# Altium schematic symbol library SiLabs Microcontroller 8-Bit 8051.SchLib: 120 symbols (part 8 of 9)
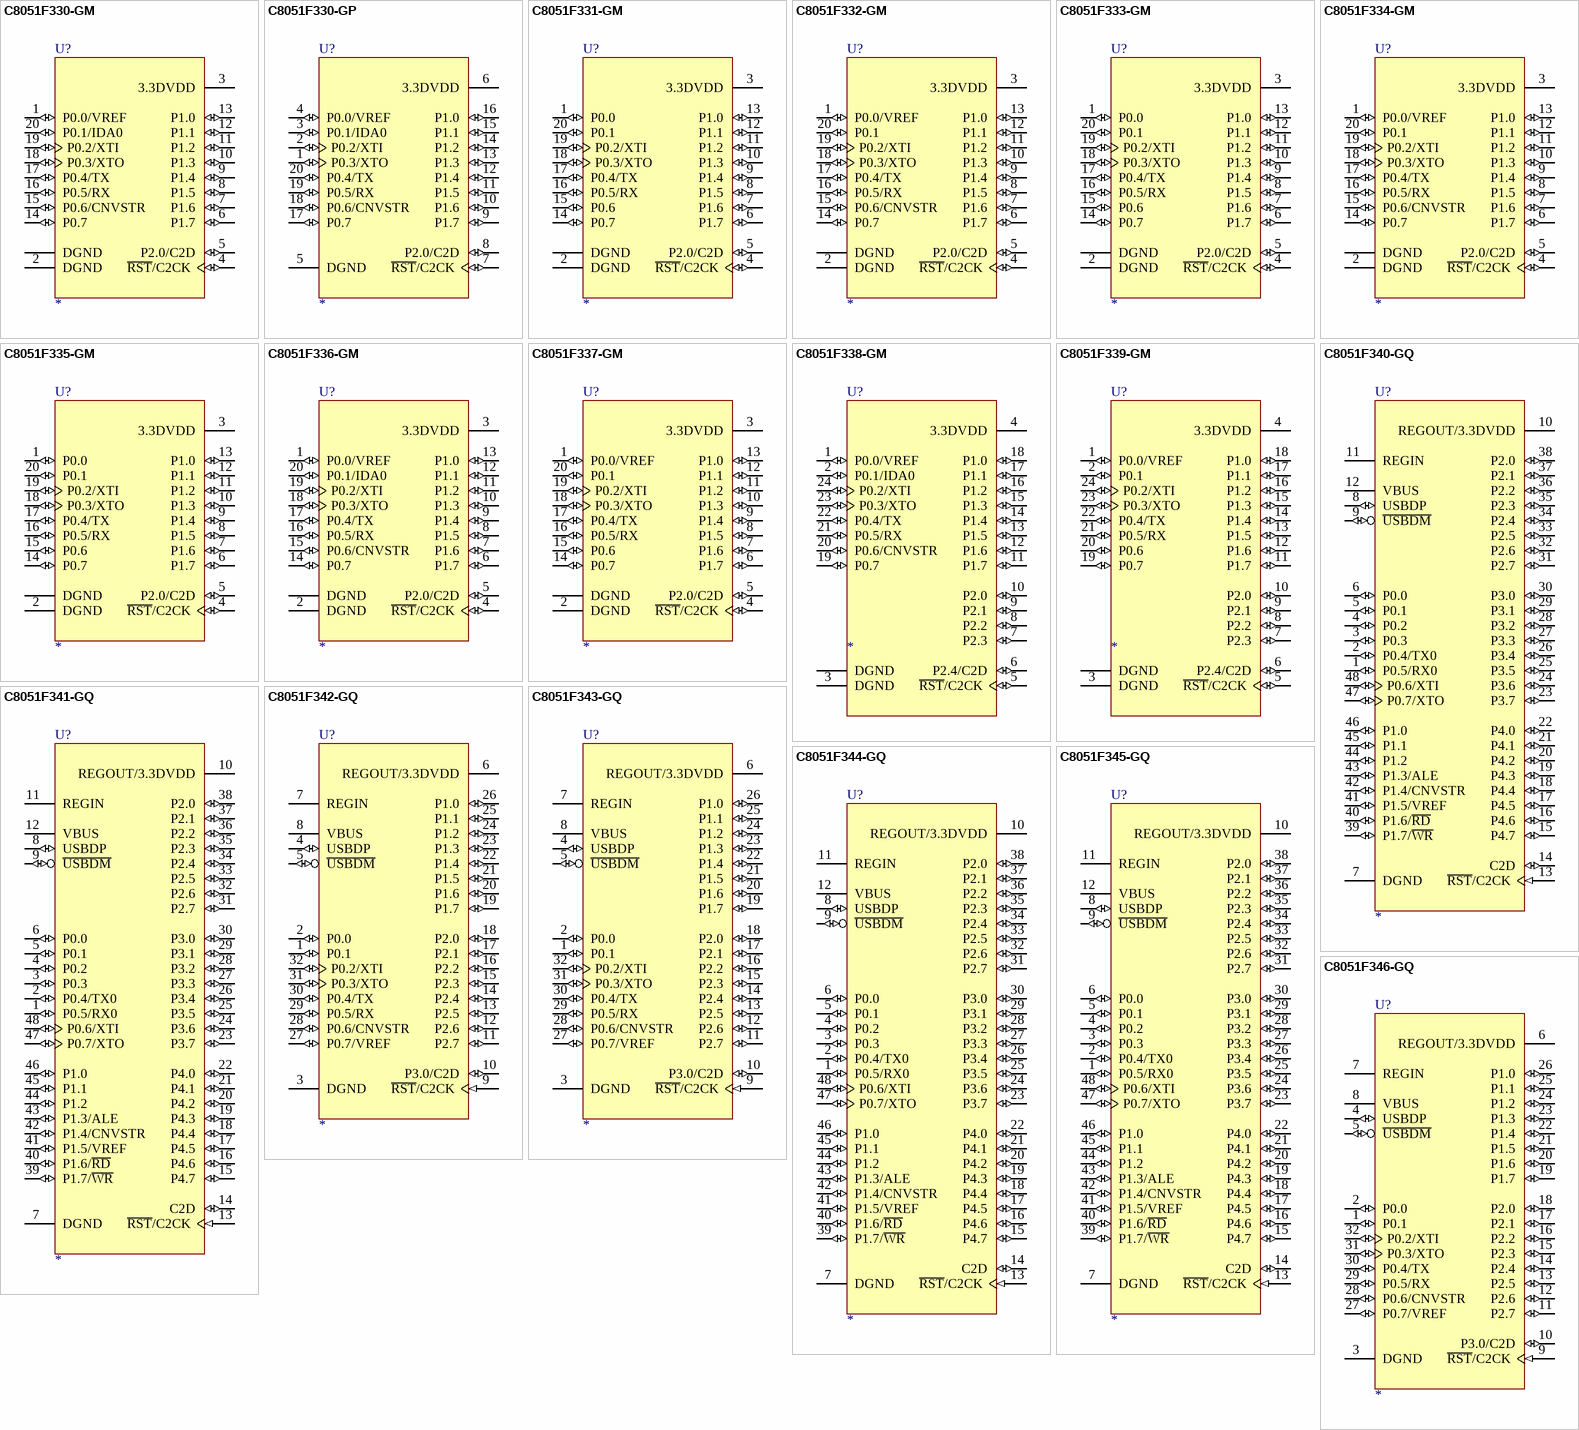
[diagram p21: symbols C8051F330-GM to C8051F346-GQ]

## C8051F346-GQ
designator U?
USB 8051 Microcontroller, 25MIPS, 64KiB Flash, 256Byte RAM + 4KiB XRAM, 1KiB USB FIFO, 12MHz +/-0.25% Internal Oscillator, 4-16bit Timer, 21CH 200ksps 10bit ADC, USB 2.0 FS/LS, UART, I2C, SPI, PCA, 2 Comparator, LDO, 25GPIO.; Manufacture: Silicon Laboratories; Compliant: RoHS; CompliantInformationSource: Silicon Laboratries; PackageDocument: 2008-06; TempertureRange: Industrial (-40 to +85Cel); ComponentLink1Description: Manufacture Link; ComponentLink1URL: http://www.silabs.com/; ComponentLink2Description: Datasheet; ComponentLink2URL: https://www.silabs.com/Support Documents/TechnicalDocs/C8051F34x.pdf; DatasheetDocument: Rev. 1.1, 2008-06; PackageReference: LQFP-32; Published: 2006-02-21; Publisher: A and A System Co., Ltd.; DigiKeyPartNumber: 336-1304-ND
footprint LQFP-32/e0.8 (LQFP-32; Body Width 10mm; Pitch 0.8mm)
pins: 1 P0.1 (io) "Port 0.1.", 2 P0.0 (io) "Port 0.0. See Section 15 for a complete description of Port 0.", 3 DGND (power) "Digital Power Ground", 4 USBDP (io) "USB Data line Positive.", 5 ~{USBDM} (io) "USB Data line Negative", 6 REGOUT/3.3DVDD (power) "2.7-3.6V Power Supply Voltage Input, or 3.3V Voltage Regulator Output. See Section 8.", 7 REGIN (power) "5V Regulator Input. This pin is the input to the on-chip voltage regulator.", 8 VBUS (power) "VBUS Sense Input. This pin should be connected to the VBUS signal of a USB network. A 5?V signal on this pin indicates a USB network connection.", 9 ~{RST}/C2CK (in) "Reset Input, C2 Debug IF Clock Input.", 10 P3.0/C2D (io) "Port 3.0, C2 Debug IF Data IO.", 11 P2.7 (io) "Port 2.7.", 12 P2.6 (io) "Port 2.6.", 13 P2.5 (io) "Port 2.5.", 14 P2.4 (io) "Port 2.4.", 15 P2.3 (io) "Port 2.3.", 16 P2.2 (io) "Port 2.2.", 17 P2.1 (io) "Port 2.1.", 18 P2.0 (io) "Port 2.0.", 19 P1.7 (io) "Port 1.7.", 20 P1.6 (io) "Port 1.6.", 21 P1.5 (io) "Port 1.5.", 22 P1.4 (io) "Port 1.4.", 23 P1.3 (io) "Port 1.3.", 24 P1.2 (io) "Port 1.2.", 25 P1.1 (io) "Port 1.1", 26 P1.0 (io) "Port 1.0", 27 P0.7/VREF (io) "Port 0.7, ADC Voltage Reference.", 28 P0.6/CNVSTR (io) "Port 0.6, ADC0 External Converter Start Input.", 29 P0.5/RX (io) "Port 0.5.", 30 P0.4/TX (io) "Port 0.4.", 31 P0.3/XTO (io) "Port 0.3, External Clock Input.", 32 P0.2/XTI (io) "Port 0.2, External Clock Output."

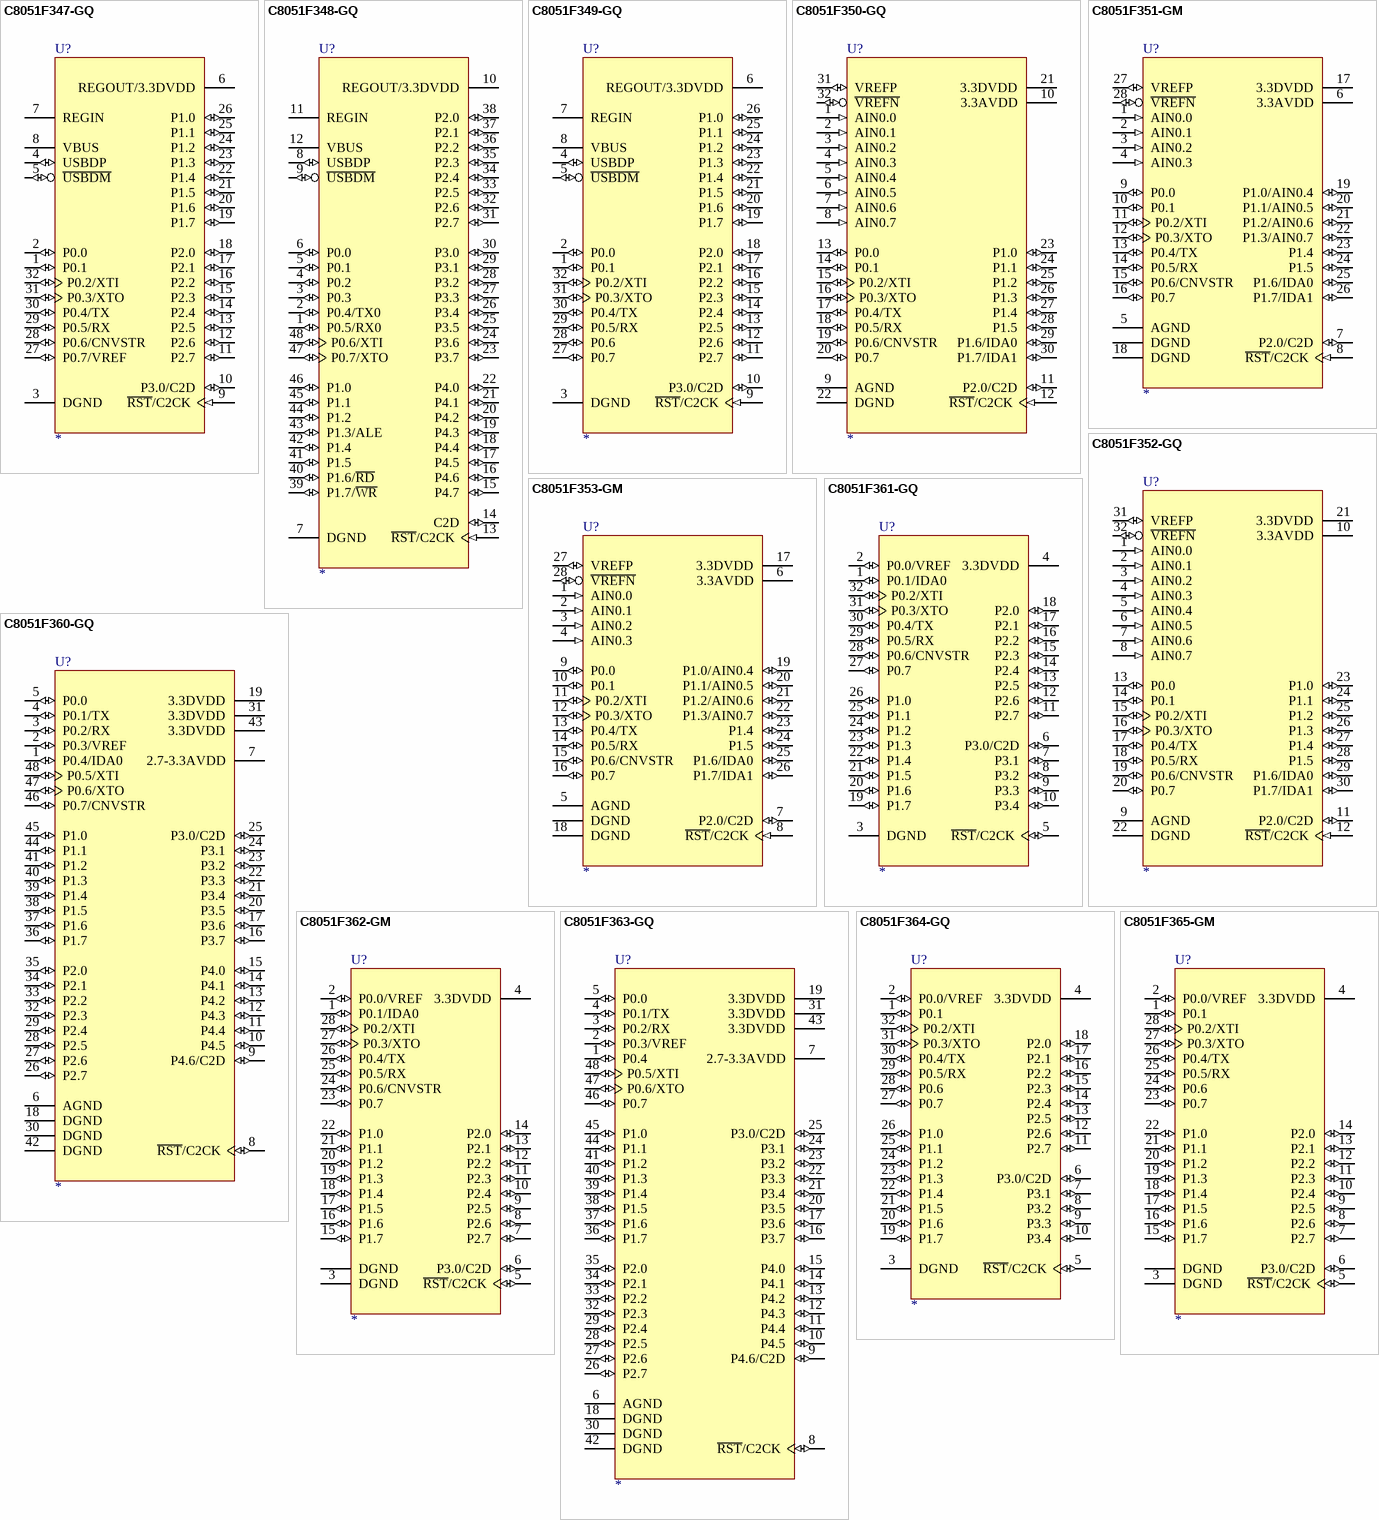
[diagram p13: symbols C8051F347-GQ to C8051F365-GM]

## C8051F347-GQ
designator U?
USB 8051 Microcontroller, 25MIPS, 32KiB Flash, 256Byte RAM + 2KiB XRAM, 1KiB USB FIFO, 12MHz +/-0.25% Internal Oscillator, 4-16bit Timer, 21CH 200ksps 10bit ADC, USB 2.0 FS/LS, UART, I2C, SPI, PCA, 2 Comparator, LDO, 25GPIO.; Manufacture: Silicon Laboratories; Compliant: RoHS; CompliantInformationSource: Silicon Laboratries; PackageDocument: 2008-06; TempertureRange: Industrial (-40 to +85Cel); ComponentLink1Description: Manufacture Link; ComponentLink1URL: http://www.silabs.com/; ComponentLink2Description: Datasheet; ComponentLink2URL: https://www.silabs.com/Support Documents/TechnicalDocs/C8051F34x.pdf; DatasheetDocument: Rev. 1.1, 2008-06; PackageReference: LQFP-32; Published: 2006-02-21; Publisher: A and A System Co., Ltd.; DigiKeyPartNumber: 336-1305-ND
footprint LQFP-32/e0.8 (LQFP-32; Body Width 10mm; Pitch 0.8mm)
pins: 1 P0.1 (io) "Port 0.1.", 2 P0.0 (io) "Port 0.0. See Section 15 for a complete description of Port 0.", 3 DGND (power) "Digital Power Ground", 4 USBDP (io) "USB Data line Positive.", 5 ~{USBDM} (io) "USB Data line Negative", 6 REGOUT/3.3DVDD (power) "2.7-3.6V Power Supply Voltage Input, or 3.3V Voltage Regulator Output. See Section 8.", 7 REGIN (power) "5V Regulator Input. This pin is the input to the on-chip voltage regulator.", 8 VBUS (power) "VBUS Sense Input. This pin should be connected to the VBUS signal of a USB network. A 5?V signal on this pin indicates a USB network connection.", 9 ~{RST}/C2CK (in) "Reset Input, C2 Debug IF Clock Input.", 10 P3.0/C2D (io) "Port 3.0, C2 Debug IF Data IO.", 11 P2.7 (io) "Port 2.7.", 12 P2.6 (io) "Port 2.6.", 13 P2.5 (io) "Port 2.5.", 14 P2.4 (io) "Port 2.4.", 15 P2.3 (io) "Port 2.3.", 16 P2.2 (io) "Port 2.2.", 17 P2.1 (io) "Port 2.1.", 18 P2.0 (io) "Port 2.0.", 19 P1.7 (io) "Port 1.7.", 20 P1.6 (io) "Port 1.6.", 21 P1.5 (io) "Port 1.5.", 22 P1.4 (io) "Port 1.4.", 23 P1.3 (io) "Port 1.3.", 24 P1.2 (io) "Port 1.2.", 25 P1.1 (io) "Port 1.1", 26 P1.0 (io) "Port 1.0", 27 P0.7/VREF (io) "Port 0.7, ADC Voltage Reference.", 28 P0.6/CNVSTR (io) "Port 0.6, ADC0 External Converter Start Input.", 29 P0.5/RX (io) "Port 0.5.", 30 P0.4/TX (io) "Port 0.4.", 31 P0.3/XTO (io) "Port 0.3, External Clock Input.", 32 P0.2/XTI (io) "Port 0.2, External Clock Output."

## C8051F348-GQ
designator U?
USB 8051 Microcontroller, 25MIPS, 32KiB Flash, 256Byte RAM + 2KiB XRAM, 1KiB USB FIFO, 64KiB EMIF, 12MHz +/-0.25% and 80kHz Internal Oscillator, 4-16bit Timer, USB 2.0 FS/LS, 2 UART, I2C, SPI, PCA, 2 Comparator, LDO, 40GPIO.; Manufacture: Silicon Laboratories; Compliant: RoHS; CompliantInformationSource: Silicon Laboratries; PackageDocument: 2008-06; TempertureRange: Industrial (-40 to +85Cel); ComponentLink1Description: Manufacture Link; ComponentLink1URL: http://www.silabs.com/; ComponentLink2Description: Datasheet; ComponentLink2URL: https://www.silabs.com/Support Documents/TechnicalDocs/C8051F34x.pdf; DatasheetDocument: Rev. 1.1, 2008-06; PackageReference: TQFP-48; Published: 2006-02-21; Publisher: A and A System Co., Ltd.; DigiKeyPartNumber: 336-1508-ND
footprint TQFP-48/e0.5 (TQFP-48; Body Width 9mm; Pitch 0.5mm)
pins: 1 P0.5/RX0 (io) "Port 0.5.", 2 P0.4/TX0 (io) "Port 0.4.", 3 P0.3 (io) "Port 0.3.", 4 P0.2 (io) "Port 0.2.", 5 P0.1 (io) "Port 0.1.", 6 P0.0 (io) "Port 0.0. See Section 15 for a complete description of Port 0.", 7 DGND (power) "Digital Power Ground", 8 USBDP (io) "USB Data line Positive.", 9 ~{USBDM} (io) "USB Data line Negative", 10 REGOUT/3.3DVDD (power) "2.7-3.6V Power Supply Voltage Input, or 3.3V Voltage Regulator Output. See Section 8.", 11 REGIN (power) "5V Regulator Input. This pin is the input to the on-chip voltage regulator.", 12 VBUS (power) "VBUS Sense Input. This pin should be connected to the VBUS signal of a USB network. A 5?V signal on this pin indicates a USB network connection.", 13 ~{RST}/C2CK (in) "Reset Input, C2 Debug IF Clock Input.", 14 C2D (io) "Port 0.3, C2 Debug IF Data IO.", 15 P4.7 (io) "Port 4.7.", 16 P4.6 (io) "Port 4.6.", 17 P4.5 (io) "Port 4.5.", 18 P4.4 (io) "Port 4.4.", 19 P4.3 (io) "Port 4.3.", 20 P4.2 (io) "Port 4.2.", 21 P4.1 (io) "Port 4.1.", 22 P4.0 (io) "Port 4.0.", 23 P3.7 (io) "Port 3.7.", 24 P3.6 (io) "Port 3.6.", 25 P3.5 (io) "Port 3.5.", 26 P3.4 (io) "Port 3.4.", 27 P3.3 (io) "Port 3.3.", 28 P3.2 (io) "Port 3.2.", 29 P3.1 (io) "Port 3.1.", 30 P3.0 (io) "Port 3.0.", 31 P2.7 (io) "Port 2.7.", 32 P2.6 (io) "Port 2.6.", 33 P2.5 (io) "Port 2.5.", 34 P2.4 (io) "Port 2.4.", 35 P2.3 (io) "Port 2.3.", 36 P2.2 (io) "Port 2.2.", 37 P2.1 (io) "Port 2.1.", 38 P2.0 (io) "Port 2.0.", 39 P1.7/~{WR} (io) "Port 1.7, WR Strobe for External Memory Address bus. See Port Input/Output section for complete description.", 40 P1.6/~{RD} (io) "Port 1.6, RD Strobe for External Memory Address bus. See Port Input/Output section for complete description.", 41 P1.5 (io) "Port 1.5, External Voltage Reference", 42 P1.4 (io) "Port 1.4, ADC0 External Converter Start Input.", 43 P1.3/ALE (io) "Port 1.3, ALE Strobe for External Memory Address bus (multiplexed mode) See Port Input/Output section for complete description.", 44 P1.2 (io) "Port 1.2.", 45 P1.1 (io) "Port 1.1", 46 P1.0 (io) "Port 1.0", 47 P0.7/XTO (io) "Port 0.7, External Clock Output.", 48 P0.6/XTI (io) "Port 0.2, External Clock Input."

## C8051F349-GQ
designator U?
USB 8051 Microcontroller, 25MIPS, 32KiB Flash, 256Byte RAM + 2KiB XRAM, 1KiB USB FIFO, 12MHz +/-0.25% and 80kHz Internal Oscillator, 4-16bit Timer, USB 2.0 FS/LS, UART, I2C, SPI, PCA, 2 Comparator, LDO, 25GPIO.; Manufacture: Silicon Laboratories; Compliant: RoHS; CompliantInformationSource: Silicon Laboratries; PackageDocument: 2008-06; TempertureRange: Industrial (-40 to +85Cel); ComponentLink1Description: Manufacture Link; ComponentLink1URL: http://www.silabs.com/; ComponentLink2Description: Datasheet; ComponentLink2URL: https://www.silabs.com/Support Documents/TechnicalDocs/C8051F34x.pdf; DatasheetDocument: Rev. 1.1, 2008-06; PackageReference: LQFP-32; Published: 2006-02-21; Publisher: A and A System Co., Ltd.; DigiKeyPartNumber: 336-1509-ND
footprint LQFP-32/e0.8 (LQFP-32; Body Width 10mm; Pitch 0.8mm)
pins: 1 P0.1 (io) "Port 0.1.", 2 P0.0 (io) "Port 0.0. See Section 15 for a complete description of Port 0.", 3 DGND (power) "Digital Power Ground", 4 USBDP (io) "USB Data line Positive.", 5 ~{USBDM} (io) "USB Data line Negative", 6 REGOUT/3.3DVDD (power) "2.7-3.6V Power Supply Voltage Input, or 3.3V Voltage Regulator Output. See Section 8.", 7 REGIN (power) "5V Regulator Input. This pin is the input to the on-chip voltage regulator.", 8 VBUS (power) "VBUS Sense Input. This pin should be connected to the VBUS signal of a USB network. A 5?V signal on this pin indicates a USB network connection.", 9 ~{RST}/C2CK (in) "Reset Input, C2 Debug IF Clock Input.", 10 P3.0/C2D (io) "Port 3.0, C2 Debug IF Data IO.", 11 P2.7 (io) "Port 2.7.", 12 P2.6 (io) "Port 2.6.", 13 P2.5 (io) "Port 2.5.", 14 P2.4 (io) "Port 2.4.", 15 P2.3 (io) "Port 2.3.", 16 P2.2 (io) "Port 2.2.", 17 P2.1 (io) "Port 2.1.", 18 P2.0 (io) "Port 2.0.", 19 P1.7 (io) "Port 1.7.", 20 P1.6 (io) "Port 1.6.", 21 P1.5 (io) "Port 1.5.", 22 P1.4 (io) "Port 1.4.", 23 P1.3 (io) "Port 1.3.", 24 P1.2 (io) "Port 1.2.", 25 P1.1 (io) "Port 1.1", 26 P1.0 (io) "Port 1.0", 27 P0.7 (io) "Port 0.7, ADC Voltage Reference.", 28 P0.6 (io) "Port 0.6, ADC0 External Converter Start Input.", 29 P0.5/RX (io) "Port 0.5.", 30 P0.4/TX (io) "Port 0.4.", 31 P0.3/XTO (io) "Port 0.3, External Clock Input.", 32 P0.2/XTI (io) "Port 0.2, External Clock Output."

## C8051F350-GQ
designator U?
8051 Microcontroller, 50MIPS, 8KiB Flash, 256Byte RAM + 512Byte XRAM, 24.5MHz +/-2% Internal Oscillator, 4-16bit Timer, 8CH 1ksps 24bit ADC, 2CH 8bit IDAC, UART, I2C, SPI, PCA, Comparator, 17GPIO.; Manufacture: Silicon Laboratories; Compliant: RoHS; CompliantInformationSource: Silicon Laboratries; PackageDocument: 2005-04; TempertureRange: Industrial (-40 to +85Cel); ComponentLink1Description: Manufacture Link; ComponentLink1URL: http://www.silabs.com/; ComponentLink2Description: Datasheet; ComponentLink2URL: https://www.silabs.com/Support Documents/TechnicalDocs/C8051F35x.pdf; DatasheetDocument: Rev. 1.0, 2005-04; PackageReference: LQFP-32; Published: 2006-02-25; Publisher: A and A System Co., Ltd.; DigiKeyPartNumber: 336-1270-ND
footprint LQFP-32/e0.8 (LQFP-32; Body Width 10mm; Pitch 0.8mm)
pins: 1 AIN0.0 (in) "ADC0 Input Channel 0.", 2 AIN0.1 (in) "ADC0 Input Channel 1.", 3 AIN0.2 (in) "ADC0 Input Channel 2.", 4 AIN0.3 (in) "ADC0 Input Channel 3.", 5 AIN0.4 (in) "ADC0 Input Channel 4.", 6 AIN0.5 (in) "ADC0 Input Channel 5.", 7 AIN0.6 (in) "ADC0 Input Channel 06.", 8 AIN0.7 (in) "ADC0 Input Channel 7.", 9 AGND (power) "Analog Ground. Must be tied to Ground.", 10 3.3AVDD (power) "Analog Supply Voltage. Must be tied to +2.7?V to +3.6?V power.", 11 P2.0/C2D (io) "Port 2.0/C2 Debug IF Data IO.", 12 ~{RST}/C2CK (in) "Reset Input/C2 Debug IF Clock Input.", 13 P0.0 (io) "Port 0.0.", 14 P0.1 (io) "Port 0.1.", 15 P0.2/XTI (io) "Port 0.2, This pin is the external oscillator return for a crystal or resonator.", 16 P0.3/XTO (io) "Port 0.3, This pin is the excitation driver for an external crystal or resonator, or an external clock input for CMOS, capacitor, or RC oscillator configurations.", 17 P0.4/TX (io) "Port 0.4.", 18 P0.5/RX (io) "Port 0.5.", 19 P0.6/CNVSTR (io) "Port 0.6, External Convert Start Input for IDACs.", 20 P0.7 (io) "Port 0.7.", 21 3.3DVDD (power) "Digital Supply Voltage. Must be tied to +2.7?V to +3.6?V power.", 22 DGND (power) "Digital Ground. Must be tied to Ground.", 23 P1.0 (io) "Port 1.0.", 24 P1.1 (io) "Port 1.1.", 25 P1.2 (io) "Port 1.2.", 26 P1.3 (io) "Port 1.3.", 27 P1.4 (io) "Port 1.4.", 28 P1.5 (io) "Port 1.5.", 29 P1.6/IDA0 (io) "Port 1.6, IDAC0 Output.", 30 P1.7/IDA1 (io) "Port 1.7, IDAC1 Output.", 31 VREFP (io) "VREF Positive Voltage Pin.", 32 ~{VREFN} (io) "VREF Negative Voltage Pin."

## C8051F351-GM
designator U?
8051 Microcontroller, 50MIPS, 8KiB Flash, 256Byte RAM + 512Byte XRAM, 24.5MHz +/-2% Internal Oscillator, 4-16bit Timer, 8CH 1ksps 24bit ADC, 2CH 8bit IDAC, UART, I2C, SPI, PCA, Comparator, 17GPIO.; Manufacture: Silicon Laboratories; Compliant: RoHS; CompliantInformationSource: Silicon Laboratries; PackageDocument: 2005-04; TempertureRange: Industrial (-40 to +85Cel); ComponentLink1Description: Manufacture Link; ComponentLink1URL: http://www.silabs.com/; ComponentLink2Description: Datasheet; ComponentLink2URL: https://www.silabs.com/Support Documents/TechnicalDocs/C8051F35x.pdf; DatasheetDocument: Rev. 1.0, 2005-04; PackageReference: QFN-28; Published: 2006-03-02; Publisher: A and A System Co., Ltd.; DigiKeyPartNumber: 336-1271-ND
footprint SILABS/QFN-28/W5/E0.5 (SiLabs Specific; QFN-28; Body 5.00x5.00x0.90mm; Pitch 0.5mm)
pins: 1 AIN0.0 (in) "ADC0 Input Channel 0.", 2 AIN0.1 (in) "ADC0 Input Channel 1.", 3 AIN0.2 (in) "ADC0 Input Channel 2.", 4 AIN0.3 (in) "ADC0 Input Channel 3.", 5 AGND (power) "Analog Ground. Must be tied to Ground.", 6 3.3AVDD (power) "Analog Supply Voltage. Must be tied to +2.7?V to +3.6?V power.", 7 P2.0/C2D (io) "Port 2.0/C2 Debug IF Data IO.", 8 ~{RST}/C2CK (in) "Reset Input/C2 Debug IF Clock Input.", 9 P0.0 (io) "Port 0.0.", 10 P0.1 (io) "Port 0.1.", 11 P0.2/XTI (io) "Port 0.2, This pin is the external oscillator return for a crystal or resonator.", 12 P0.3/XTO (io) "Port 0.3, This pin is the excitation driver for an external crystal or resonator, or an external clock input for CMOS, capacitor, or RC oscillator configurations.", 13 P0.4/TX (io) "Port 0.4.", 14 P0.5/RX (io) "Port 0.5.", 15 P0.6/CNVSTR (io) "Port 0.6, External Convert Start Input for IDACs.", 16 P0.7 (io) "Port 0.7.", 17 3.3DVDD (power) "Digital Supply Voltage. Must be tied to +2.7?V to +3.6?V power.", 18 DGND (power) "Digital Ground. Must be tied to Ground.", 19 P1.0/AIN0.4 (io) "Port 1.0, ADC0 Input Channel 4.", 20 P1.1/AIN0.5 (io) "Port 1.1, ADC0 Input Channel 5.", 21 P1.2/AIN0.6 (io) "Port 1.2, ADC0 Input Channel 6.", 22 P1.3/AIN0.7 (io) "Port 1.3, ADC0 Input Channel 7.", 23 P1.4 (io) "Port 1.4.", 24 P1.5 (io) "Port 1.5.", 25 P1.6/IDA0 (io) "Port 1.6, IDAC0 Output.", 26 P1.7/IDA1 (io) "Port 1.7, IDAC1 Output.", 27 VREFP (io) "VREF Positive Voltage Pin.", 28 ~{VREFN} (io) "VREF Negative Voltage Pin.", TPAD DGND (power)

## C8051F352-GQ
designator U?
8051 Microcontroller, 50MIPS, 8KiB Flash, 256Byte RAM + 512Byte XRAM, 24.5MHz +/-2% Internal Oscillator, 4-16bit Timer, 8CH 1ksps 16bit ADC, 2CH 8bit IDAC, UART, I2C, SPI, PCA, Comparator, 17GPIO.; Manufacture: Silicon Laboratories; Compliant: RoHS; CompliantInformationSource: Silicon Laboratries; PackageDocument: 2005-04; TempertureRange: Industrial (-40 to +85Cel); ComponentLink1Description: Manufacture Link; ComponentLink1URL: http://www.silabs.com/; ComponentLink2Description: Datasheet; ComponentLink2URL: https://www.silabs.com/Support Documents/TechnicalDocs/C8051F35x.pdf; DatasheetDocument: Rev. 1.0, 2005-04; PackageReference: LQFP-32; Published: 2006-02-25; Publisher: A and A System Co., Ltd.; DigiKeyPartNumber: 336-1272-ND
footprint LQFP-32/e0.8 (LQFP-32; Body Width 10mm; Pitch 0.8mm)
pins: 1 AIN0.0 (in) "ADC0 Input Channel 0.", 2 AIN0.1 (in) "ADC0 Input Channel 1.", 3 AIN0.2 (in) "ADC0 Input Channel 2.", 4 AIN0.3 (in) "ADC0 Input Channel 3.", 5 AIN0.4 (in) "ADC0 Input Channel 4.", 6 AIN0.5 (in) "ADC0 Input Channel 5.", 7 AIN0.6 (in) "ADC0 Input Channel 06.", 8 AIN0.7 (in) "ADC0 Input Channel 7.", 9 AGND (power) "Analog Ground. Must be tied to Ground.", 10 3.3AVDD (power) "Analog Supply Voltage. Must be tied to +2.7?V to +3.6?V power.", 11 P2.0/C2D (io) "Port 2.0/C2 Debug IF Data IO.", 12 ~{RST}/C2CK (in) "Reset Input/C2 Debug IF Clock Input.", 13 P0.0 (io) "Port 0.0.", 14 P0.1 (io) "Port 0.1.", 15 P0.2/XTI (io) "Port 0.2, This pin is the external oscillator return for a crystal or resonator.", 16 P0.3/XTO (io) "Port 0.3, This pin is the excitation driver for an external crystal or resonator, or an external clock input for CMOS, capacitor, or RC oscillator configurations.", 17 P0.4/TX (io) "Port 0.4.", 18 P0.5/RX (io) "Port 0.5.", 19 P0.6/CNVSTR (io) "Port 0.6, External Convert Start Input for IDACs.", 20 P0.7 (io) "Port 0.7.", 21 3.3DVDD (power) "Digital Supply Voltage. Must be tied to +2.7?V to +3.6?V power.", 22 DGND (power) "Digital Ground. Must be tied to Ground.", 23 P1.0 (io) "Port 1.0.", 24 P1.1 (io) "Port 1.1.", 25 P1.2 (io) "Port 1.2.", 26 P1.3 (io) "Port 1.3.", 27 P1.4 (io) "Port 1.4.", 28 P1.5 (io) "Port 1.5.", 29 P1.6/IDA0 (io) "Port 1.6, IDAC0 Output.", 30 P1.7/IDA1 (io) "Port 1.7, IDAC1 Output.", 31 VREFP (io) "VREF Positive Voltage Pin.", 32 ~{VREFN} (io) "VREF Negative Voltage Pin."

## C8051F353-GM
designator U?
8051 Microcontroller, 50MIPS, 8KiB Flash, 256Byte RAM + 512Byte XRAM, 24.5MHz +/-2% Internal Oscillator, 4-16bit Timer, 8CH 1ksps 16bit ADC, 2CH 8bit IDAC, UART, I2C, SPI, PCA, Comparator, 17GPIO.; Manufacture: Silicon Laboratories; Compliant: RoHS; CompliantInformationSource: Silicon Laboratries; PackageDocument: 2005-04; TempertureRange: Industrial (-40 to +85Cel); ComponentLink1Description: Manufacture Link; ComponentLink1URL: http://www.silabs.com/; ComponentLink2Description: Datasheet; ComponentLink2URL: https://www.silabs.com/Support Documents/TechnicalDocs/C8051F35x.pdf; DatasheetDocument: Rev. 1.0, 2005-04; PackageReference: QFN-28; Published: 2006-03-02; Publisher: A and A System Co., Ltd.; DigiKeyPartNumber: 336-1273-ND
footprint SILABS/QFN-28/W5/E0.5 (SiLabs Specific; QFN-28; Body 5.00x5.00x0.90mm; Pitch 0.5mm)
pins: 1 AIN0.0 (in) "ADC0 Input Channel 0.", 2 AIN0.1 (in) "ADC0 Input Channel 1.", 3 AIN0.2 (in) "ADC0 Input Channel 2.", 4 AIN0.3 (in) "ADC0 Input Channel 3.", 5 AGND (power) "Analog Ground. Must be tied to Ground.", 6 3.3AVDD (power) "Analog Supply Voltage. Must be tied to +2.7?V to +3.6?V power.", 7 P2.0/C2D (io) "Port 2.0/C2 Debug IF Data IO.", 8 ~{RST}/C2CK (in) "Reset Input/C2 Debug IF Clock Input.", 9 P0.0 (io) "Port 0.0.", 10 P0.1 (io) "Port 0.1.", 11 P0.2/XTI (io) "Port 0.2, This pin is the external oscillator return for a crystal or resonator.", 12 P0.3/XTO (io) "Port 0.3, This pin is the excitation driver for an external crystal or resonator, or an external clock input for CMOS, capacitor, or RC oscillator configurations.", 13 P0.4/TX (io) "Port 0.4.", 14 P0.5/RX (io) "Port 0.5.", 15 P0.6/CNVSTR (io) "Port 0.6, External Convert Start Input for IDACs.", 16 P0.7 (io) "Port 0.7.", 17 3.3DVDD (power) "Digital Supply Voltage. Must be tied to +2.7?V to +3.6?V power.", 18 DGND (power) "Digital Ground. Must be tied to Ground.", 19 P1.0/AIN0.4 (io) "Port 1.0, ADC0 Input Channel 4.", 20 P1.1/AIN0.5 (io) "Port 1.1, ADC0 Input Channel 5.", 21 P1.2/AIN0.6 (io) "Port 1.2, ADC0 Input Channel 6.", 22 P1.3/AIN0.7 (io) "Port 1.3, ADC0 Input Channel 7.", 23 P1.4 (io) "Port 1.4.", 24 P1.5 (io) "Port 1.5.", 25 P1.6/IDA0 (io) "Port 1.6, IDAC0 Output.", 26 P1.7/IDA1 (io) "Port 1.7, IDAC1 Output.", 27 VREFP (io) "VREF Positive Voltage Pin.", 28 ~{VREFN} (io) "VREF Negative Voltage Pin.", TPAD DGND (power)

## C8051F360-GQ
designator U?
8051 Microcontroller, 100MIPS, 16x16MAC, 32KiB Flash, 256Byte RAM + 1KiB XRAM, 64KiB EMIF, 24.5MHz +/-2% and 80-10kHz Internal Oscillator, 4-16bit Timer, 17CH 200ksps 10bit ADC, 1CH 10bit IDAC, UART, I2C, SPI, PCA, 2 Comparator, 39GPIO.; Manufacture: Silicon Laboratories; Compliant: RoHS; CompliantInformationSource: Silicon Laboratries; PackageDocument: 2007-07; TempertureRange: Industrial (-40 to +85Cel); ComponentLink1Description: Manufacture Link; ComponentLink1URL: http://www.silabs.com/; ComponentLink2Description: Datasheet; ComponentLink2URL: https://www.silabs.com/Support Documents/TechnicalDocs/C8051F36x.pdf; DatasheetDocument: Rev. 1.0, 2007-07; PackageReference: TQFP-48; Published: 2007-02-15; Publisher: A and A System Co., Ltd.; DigiKeyPartNumber: 336-1407-ND
footprint TQFP-48/e0.5 (TQFP-48; JEDEC MS-026ABC; Body 7.00x7.00x1.20mm; Pitch 0.5mm;)
pins: 1 P0.4/IDA0 (io), 2 P0.3/VREF (io), 3 P0.2/RX (io), 4 P0.1/TX (io), 5 P0.0 (io), 6 AGND (power), 7 2.7-3.3AVDD (power), 8 ~{RST}/C2CK (io), 9 P4.6/C2D (io), 10 P4.5 (io), 11 P4.4 (io), 12 P4.3 (io), 13 P4.2 (io), 14 P4.1 (io), 15 P4.0 (io), 16 P3.7 (io), 17 P3.6 (io), 18 DGND (power), 19 3.3DVDD (power), 20 P3.5 (io), 21 P3.4 (io), 22 P3.3 (io), 23 P3.2 (io), 24 P3.1 (io), 25 P3.0/C2D (io), 26 P2.7 (io), 27 P2.6 (io), 28 P2.5 (io), 29 P2.4 (io), 30 DGND (power), 31 3.3DVDD (power), 32 P2.3 (io), 33 P2.2 (io), 34 P2.1 (io), 35 P2.0 (io), 36 P1.7 (io), 37 P1.6 (io), 38 P1.5 (io), 39 P1.4 (io), 40 P1.3 (io), 41 P1.2 (io), 42 DGND (power), 43 3.3DVDD (power), 44 P1.1 (io), 45 P1.0 (io), 46 P0.7/CNVSTR (io), 47 P0.6/XTO (io), 48 P0.5/XTI (io)

## C8051F361-GQ
designator U?
8051 Microcontroller, 100MIPS, 16x16MAC, 32KiB Flash, 256Byte RAM + 1KiB XRAM, 24.5MHz +/-2% and 80-10kHz Internal Oscillator, 4-16bit Timer, 21CH 200ksps 10bit ADC, 1CH 10bit IDAC, UART, I2C, SPI, PCA, 2 Comparator, 29GPIO.; Manufacture: Silicon Laboratories; Compliant: RoHS; CompliantInformationSource: Silicon Laboratries; PackageDocument: 2007-07; TempertureRange: Industrial (-40 to +85Cel); ComponentLink1Description: Manufacture Link; ComponentLink1URL: http://www.silabs.com/; ComponentLink2Description: Datasheet; ComponentLink2URL: https://www.silabs.com/Support Documents/TechnicalDocs/C8051F36x.pdf; DatasheetDocument: Rev. 1.0, 2007-07; PackageReference: LQFP-32; Published: 2007-02-15; Publisher: A and A System Co., Ltd.; DigiKeyPartNumber: 336-1408-ND
footprint LQFP-32/e0.8 (LQFP-32; JEDEC MS-026BBA; Body 7.00x7.00x1.60mm; Pitch 0.8mm;)
pins: 1 P0.1/IDA0 (io), 2 P0.0/VREF (io), 3 DGND (power), 4 3.3DVDD (power), 5 ~{RST}/C2CK (io), 6 P3.0/C2D (io), 7 P3.1 (io), 8 P3.2 (io), 9 P3.3 (io), 10 P3.4 (io), 11 P2.7 (io), 12 P2.6 (io), 13 P2.5 (io), 14 P2.4 (io), 15 P2.3 (io), 16 P2.2 (io), 17 P2.1 (io), 18 P2.0 (io), 19 P1.7 (io), 20 P1.6 (io), 21 P1.5 (io), 22 P1.4 (io), 23 P1.3 (io), 24 P1.2 (io), 25 P1.1 (io), 26 P1.0 (io), 27 P0.7 (io), 28 P0.6/CNVSTR (io), 29 P0.5/RX (io), 30 P0.4/TX (io), 31 P0.3/XTO (io), 32 P0.2/XTI (io)

## C8051F362-GM
designator U?
8051 Microcontroller, 100MIPS, 16x16MAC, 32KiB Flash, 256Byte RAM + 1KiB XRAM, 24.5MHz +/-2% and 80-10kHz Internal Oscillator, 4-16bit Timer, 21CH 200ksps 10bit ADC, 1CH 10bit IDAC, UART, I2C, SPI, PCA, 2 Comparator, 25GPIO.; Manufacture: Silicon Laboratories; Compliant: RoHS; CompliantInformationSource: Silicon Laboratries; PackageDocument: 2007-07; TempertureRange: Industrial (-40 to +85Cel); ComponentLink1Description: Manufacture Link; ComponentLink1URL: http://www.silabs.com/; ComponentLink2Description: Datasheet; ComponentLink2URL: https://www.silabs.com/Support Documents/TechnicalDocs/C8051F36x.pdf; DatasheetDocument: Rev. 1.0, 2007-07; PackageReference: QFN-28; Published: 2007-02-15; Publisher: A and A System Co., Ltd.; DigiKeyPartNumber: 336-1409-5-ND
footprint HV-PQFN-28/W5/e0.5 (QFN-28; JEDEC MO-220-VHHD-1; Body 5.00x5.00x1.00mm; Pitch 0.5mm;)
pins: 1 P0.1/IDA0 (io), 2 P0.0/VREF (io), 3 DGND (power), 4 3.3DVDD (power), 5 ~{RST}/C2CK (io), 6 P3.0/C2D (io), 7 P2.7 (io), 8 P2.6 (io), 9 P2.5 (io), 10 P2.4 (io), 11 P2.3 (io), 12 P2.2 (io), 13 P2.1 (io), 14 P2.0 (io), 15 P1.7 (io), 16 P1.6 (io), 17 P1.5 (io), 18 P1.4 (io), 19 P1.3 (io), 20 P1.2 (io), 21 P1.1 (io), 22 P1.0 (io), 23 P0.7 (io), 24 P0.6/CNVSTR (io), 25 P0.5/RX (io), 26 P0.4/TX (io), 27 P0.3/XTO (io), 28 P0.2/XTI (io), TPAD DGND (power)

## C8051F363-GQ
designator U?
8051 Microcontroller, 100MIPS, 16x16MAC, 32KiB Flash, 256Byte RAM + 1KiB XRAM, 64KiB EMIF, 24.5MHz +/-2% and 80-10kHz Internal Oscillator, 4-16bit Timer, UART, I2C, SPI, PCA, 2 Comparator, 39GPIO.; Manufacture: Silicon Laboratories; Compliant: RoHS; CompliantInformationSource: Silicon Laboratries; PackageDocument: 2007-07; TempertureRange: Industrial (-40 to +85Cel); ComponentLink1Description: Manufacture Link; ComponentLink1URL: http://www.silabs.com/; ComponentLink2Description: Datasheet; ComponentLink2URL: https://www.silabs.com/Support Documents/TechnicalDocs/C8051F36x.pdf; DatasheetDocument: Rev. 1.0, 2007-07; PackageReference: TQFP-48; Published: 2007-02-15; Publisher: A and A System Co., Ltd.; DigiKeyPartNumber: *
footprint TQFP-48/e0.5 (TQFP-48; JEDEC MS-026ABC; Body 7.00x7.00x1.20mm; Pitch 0.5mm;)
pins: 1 P0.4 (io), 2 P0.3/VREF (io), 3 P0.2/RX (io), 4 P0.1/TX (io), 5 P0.0 (io), 6 AGND (power), 7 2.7-3.3AVDD (power), 8 ~{RST}/C2CK (io), 9 P4.6/C2D (io), 10 P4.5 (io), 11 P4.4 (io), 12 P4.3 (io), 13 P4.2 (io), 14 P4.1 (io), 15 P4.0 (io), 16 P3.7 (io), 17 P3.6 (io), 18 DGND (power), 19 3.3DVDD (power), 20 P3.5 (io), 21 P3.4 (io), 22 P3.3 (io), 23 P3.2 (io), 24 P3.1 (io), 25 P3.0/C2D (io), 26 P2.7 (io), 27 P2.6 (io), 28 P2.5 (io), 29 P2.4 (io), 30 DGND (power), 31 3.3DVDD (power), 32 P2.3 (io), 33 P2.2 (io), 34 P2.1 (io), 35 P2.0 (io), 36 P1.7 (io), 37 P1.6 (io), 38 P1.5 (io), 39 P1.4 (io), 40 P1.3 (io), 41 P1.2 (io), 42 DGND (power), 43 3.3DVDD (power), 44 P1.1 (io), 45 P1.0 (io), 46 P0.7 (io), 47 P0.6/XTO (io), 48 P0.5/XTI (io)

## C8051F364-GQ
designator U?
8051 Microcontroller, 100MIPS, 16x16MAC, 32KiB Flash, 256Byte RAM + 1KiB XRAM, 24.5MHz +/-2% and 80-10kHz Internal Oscillator, 4-16bit Timer, UART, I2C, SPI, PCA, 2 Comparator, 29GPIO.; Manufacture: Silicon Laboratories; Compliant: RoHS; CompliantInformationSource: Silicon Laboratries; PackageDocument: 2007-07; TempertureRange: Industrial (-40 to +85Cel); ComponentLink1Description: Manufacture Link; ComponentLink1URL: http://www.silabs.com/; ComponentLink2Description: Datasheet; ComponentLink2URL: https://www.silabs.com/Support Documents/TechnicalDocs/C8051F36x.pdf; DatasheetDocument: Rev. 1.0, 2007-07; PackageReference: LQFP-32; Published: 2007-02-15; Publisher: A and A System Co., Ltd.; DigiKeyPartNumber: *
footprint LQFP-32/e0.8 (LQFP-32; JEDEC MS-026BBA; Body 7.00x7.00x1.60mm; Pitch 0.8mm;)
pins: 1 P0.1 (io), 2 P0.0/VREF (io), 3 DGND (power), 4 3.3DVDD (power), 5 ~{RST}/C2CK (io), 6 P3.0/C2D (io), 7 P3.1 (io), 8 P3.2 (io), 9 P3.3 (io), 10 P3.4 (io), 11 P2.7 (io), 12 P2.6 (io), 13 P2.5 (io), 14 P2.4 (io), 15 P2.3 (io), 16 P2.2 (io), 17 P2.1 (io), 18 P2.0 (io), 19 P1.7 (io), 20 P1.6 (io), 21 P1.5 (io), 22 P1.4 (io), 23 P1.3 (io), 24 P1.2 (io), 25 P1.1 (io), 26 P1.0 (io), 27 P0.7 (io), 28 P0.6 (io), 29 P0.5/RX (io), 30 P0.4/TX (io), 31 P0.3/XTO (io), 32 P0.2/XTI (io)

## C8051F365-GM
designator U?
8051 Microcontroller, 100MIPS, 16x16MAC, 32KiB Flash, 256Byte RAM + 1KiB XRAM, 24.5MHz +/-2% and 80-10kHz Internal Oscillator, 4-16bit Timer, UART, I2C, SPI, PCA, 2 Comparator, 25GPIO.; Manufacture: Silicon Laboratories; Compliant: RoHS; CompliantInformationSource: Silicon Laboratries; PackageDocument: 2007-07; TempertureRange: Industrial (-40 to +85Cel); ComponentLink1Description: Manufacture Link; ComponentLink1URL: http://www.silabs.com/; ComponentLink2Description: Datasheet; ComponentLink2URL: https://www.silabs.com/Support Documents/TechnicalDocs/C8051F36x.pdf; DatasheetDocument: Rev. 1.0, 2007-07; PackageReference: QFN-28; Published: 2007-02-15; Publisher: A and A System Co., Ltd.; DigiKeyPartNumber: *
footprint HV-PQFN-28/W5/e0.5 (QFN-28; JEDEC MO-220-VHHD-1; Body 5.00x5.00x1.00mm; Pitch 0.5mm;)
pins: 1 P0.1 (io), 2 P0.0/VREF (io), 3 DGND (power), 4 3.3DVDD (power), 5 ~{RST}/C2CK (io), 6 P3.0/C2D (io), 7 P2.7 (io), 8 P2.6 (io), 9 P2.5 (io), 10 P2.4 (io), 11 P2.3 (io), 12 P2.2 (io), 13 P2.1 (io), 14 P2.0 (io), 15 P1.7 (io), 16 P1.6 (io), 17 P1.5 (io), 18 P1.4 (io), 19 P1.3 (io), 20 P1.2 (io), 21 P1.1 (io), 22 P1.0 (io), 23 P0.7 (io), 24 P0.6 (io), 25 P0.5/RX (io), 26 P0.4/TX (io), 27 P0.3/XTO (io), 28 P0.2/XTI (io), TPAD DGND (power)

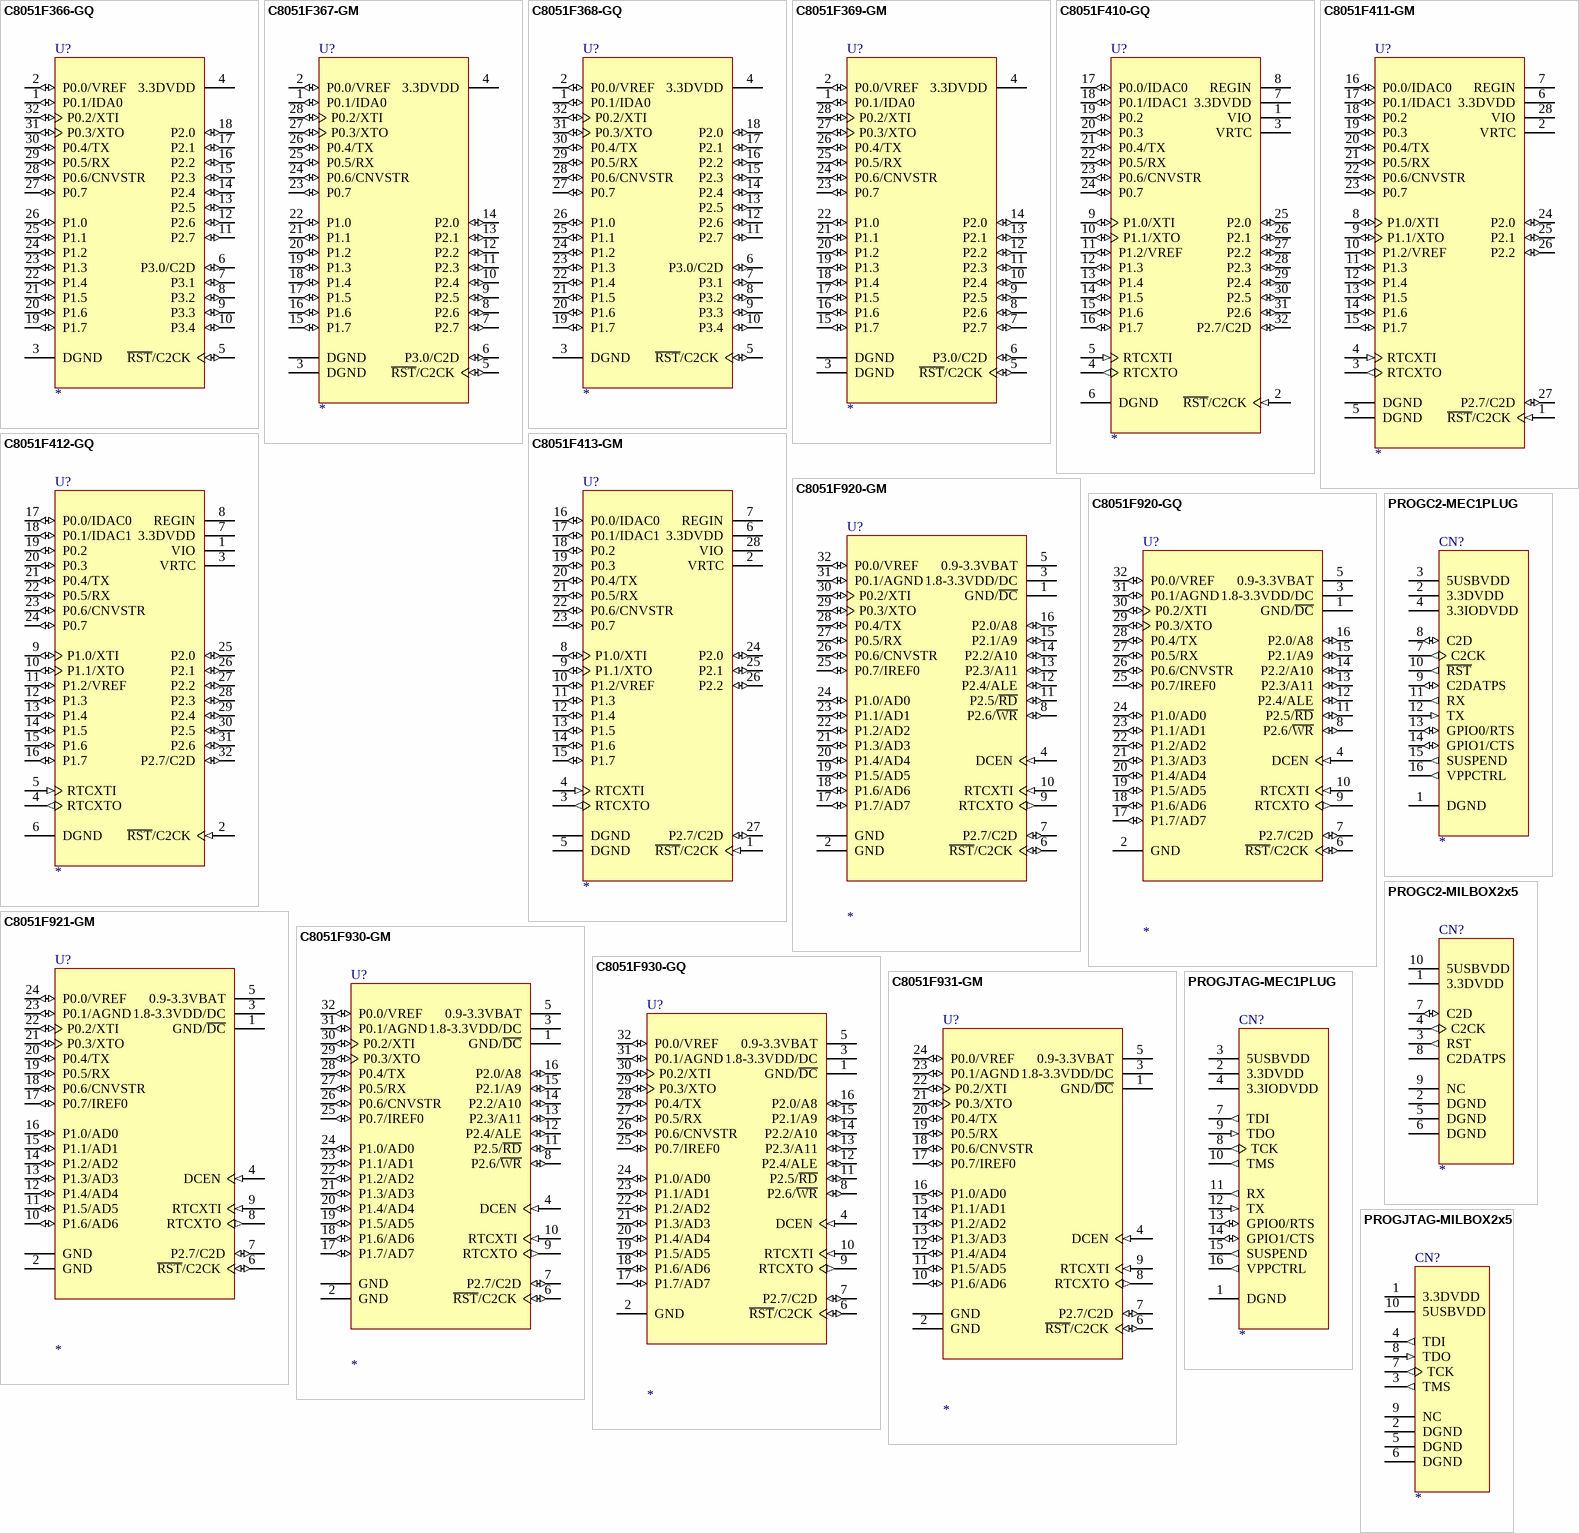
[diagram p14: symbols C8051F366-GQ to PROGJTAG-MILBOX2x5]

## C8051F366-GQ
designator U?
8051 Microcontroller, 50MIPS, 16x16MAC, 32KiB Flash, 256Byte RAM + 1KiB XRAM, 24.5MHz +/-2% and 80-10kHz Internal Oscillator, 4-16bit Timer, 21CH 200ksps 10bit ADC, 1CH 10bit IDAC, UART, I2C, SPI, PCA, 2 Comparator, 29GPIO.; Manufacture: Silicon Laboratories; Compliant: RoHS; CompliantInformationSource: Silicon Laboratries; PackageDocument: 2007-07; TempertureRange: Industrial (-40 to +85Cel); ComponentLink1Description: Manufacture Link; ComponentLink1URL: http://www.silabs.com/; ComponentLink2Description: Datasheet; ComponentLink2URL: https://www.silabs.com/Support Documents/TechnicalDocs/C8051F36x.pdf; DatasheetDocument: Rev. 1.0, 2007-07; PackageReference: LQFP-32; Published: 2007-02-15; Publisher: A and A System Co., Ltd.; DigiKeyPartNumber: *
footprint LQFP-32/e0.8 (LQFP-32; JEDEC MS-026BBA; Body 7.00x7.00x1.60mm; Pitch 0.8mm;)
pins: 1 P0.1/IDA0 (io), 2 P0.0/VREF (io), 3 DGND (power), 4 3.3DVDD (power), 5 ~{RST}/C2CK (io), 6 P3.0/C2D (io), 7 P3.1 (io), 8 P3.2 (io), 9 P3.3 (io), 10 P3.4 (io), 11 P2.7 (io), 12 P2.6 (io), 13 P2.5 (io), 14 P2.4 (io), 15 P2.3 (io), 16 P2.2 (io), 17 P2.1 (io), 18 P2.0 (io), 19 P1.7 (io), 20 P1.6 (io), 21 P1.5 (io), 22 P1.4 (io), 23 P1.3 (io), 24 P1.2 (io), 25 P1.1 (io), 26 P1.0 (io), 27 P0.7 (io), 28 P0.6/CNVSTR (io), 29 P0.5/RX (io), 30 P0.4/TX (io), 31 P0.3/XTO (io), 32 P0.2/XTI (io)

## C8051F367-GM
designator U?
8051 Microcontroller, 50MIPS, 16x16MAC, 32KiB Flash, 256Byte RAM + 1KiB XRAM, 24.5MHz +/-2% and 80-10kHz Internal Oscillator, 4-16bit Timer, 21CH 200ksps 10bit ADC, 1CH 10bit IDAC, UART, I2C, SPI, PCA, 2 Comparator, 25GPIO.; Manufacture: Silicon Laboratories; Compliant: RoHS; CompliantInformationSource: Silicon Laboratries; PackageDocument: 2007-07; TempertureRange: Industrial (-40 to +85Cel); ComponentLink1Description: Manufacture Link; ComponentLink1URL: http://www.silabs.com/; ComponentLink2Description: Datasheet; ComponentLink2URL: https://www.silabs.com/Support Documents/TechnicalDocs/C8051F36x.pdf; DatasheetDocument: Rev. 1.0, 2007-07; PackageReference: QFN-28; Published: 2007-02-15; Publisher: A and A System Co., Ltd.; DigiKeyPartNumber: *
footprint HV-PQFN-28/W5/e0.5 (QFN-28; JEDEC MO-220-VHHD-1; Body 5.00x5.00x1.00mm; Pitch 0.5mm;)
pins: 1 P0.1/IDA0 (io), 2 P0.0/VREF (io), 3 DGND (power), 4 3.3DVDD (power), 5 ~{RST}/C2CK (io), 6 P3.0/C2D (io), 7 P2.7 (io), 8 P2.6 (io), 9 P2.5 (io), 10 P2.4 (io), 11 P2.3 (io), 12 P2.2 (io), 13 P2.1 (io), 14 P2.0 (io), 15 P1.7 (io), 16 P1.6 (io), 17 P1.5 (io), 18 P1.4 (io), 19 P1.3 (io), 20 P1.2 (io), 21 P1.1 (io), 22 P1.0 (io), 23 P0.7 (io), 24 P0.6/CNVSTR (io), 25 P0.5/RX (io), 26 P0.4/TX (io), 27 P0.3/XTO (io), 28 P0.2/XTI (io), TPAD DGND (power)

## C8051F368-GQ
designator U?
8051 Microcontroller, 50MIPS, 16x16MAC, 16KiB Flash, 256Byte RAM + 1KiB XRAM, 24.5MHz +/-2% and 80-10kHz Internal Oscillator, 4-16bit Timer, 21CH 200ksps 10bit ADC, 1CH 10bit IDAC, UART, I2C, SPI, PCA, 2 Comparator, 29GPIO.; Manufacture: Silicon Laboratories; Compliant: RoHS; CompliantInformationSource: Silicon Laboratries; PackageDocument: 2007-07; TempertureRange: Industrial (-40 to +85Cel); ComponentLink1Description: Manufacture Link; ComponentLink1URL: http://www.silabs.com/; ComponentLink2Description: Datasheet; ComponentLink2URL: https://www.silabs.com/Support Documents/TechnicalDocs/C8051F36x.pdf; DatasheetDocument: Rev. 1.0, 2007-07; PackageReference: LQFP-32; Published: 2007-02-15; Publisher: A and A System Co., Ltd.; DigiKeyPartNumber: *
footprint LQFP-32/e0.8 (LQFP-32; JEDEC MS-026BBA; Body 7.00x7.00x1.60mm; Pitch 0.8mm;)
pins: 1 P0.1/IDA0 (io), 2 P0.0/VREF (io), 3 DGND (power), 4 3.3DVDD (power), 5 ~{RST}/C2CK (io), 6 P3.0/C2D (io), 7 P3.1 (io), 8 P3.2 (io), 9 P3.3 (io), 10 P3.4 (io), 11 P2.7 (io), 12 P2.6 (io), 13 P2.5 (io), 14 P2.4 (io), 15 P2.3 (io), 16 P2.2 (io), 17 P2.1 (io), 18 P2.0 (io), 19 P1.7 (io), 20 P1.6 (io), 21 P1.5 (io), 22 P1.4 (io), 23 P1.3 (io), 24 P1.2 (io), 25 P1.1 (io), 26 P1.0 (io), 27 P0.7 (io), 28 P0.6/CNVSTR (io), 29 P0.5/RX (io), 30 P0.4/TX (io), 31 P0.3/XTO (io), 32 P0.2/XTI (io)

## C8051F369-GM
designator U?
8051 Microcontroller, 50MIPS, 16x16MAC, 16KiB Flash, 256Byte RAM + 1KiB XRAM, 24.5MHz +/-2% and 80-10kHz Internal Oscillator, 4-16bit Timer, 21CH 200ksps 10bit ADC, 1CH 10bit IDAC, UART, I2C, SPI, PCA, 2 Comparator, 25GPIO.; Manufacture: Silicon Laboratories; Compliant: RoHS; CompliantInformationSource: Silicon Laboratries; PackageDocument: 2007-07; TempertureRange: Industrial (-40 to +85Cel); ComponentLink1Description: Manufacture Link; ComponentLink1URL: http://www.silabs.com/; ComponentLink2Description: Datasheet; ComponentLink2URL: https://www.silabs.com/Support Documents/TechnicalDocs/C8051F36x.pdf; DatasheetDocument: Rev. 1.0, 2007-07; PackageReference: QFN-28; Published: 2007-02-15; Publisher: A and A System Co., Ltd.; DigiKeyPartNumber: *
footprint HV-PQFN-28/W5/e0.5 (QFN-28; JEDEC MO-220-VHHD-1; Body 5.00x5.00x1.00mm; Pitch 0.5mm;)
pins: 1 P0.1/IDA0 (io), 2 P0.0/VREF (io), 3 DGND (power), 4 3.3DVDD (power), 5 ~{RST}/C2CK (io), 6 P3.0/C2D (io), 7 P2.7 (io), 8 P2.6 (io), 9 P2.5 (io), 10 P2.4 (io), 11 P2.3 (io), 12 P2.2 (io), 13 P2.1 (io), 14 P2.0 (io), 15 P1.7 (io), 16 P1.6 (io), 17 P1.5 (io), 18 P1.4 (io), 19 P1.3 (io), 20 P1.2 (io), 21 P1.1 (io), 22 P1.0 (io), 23 P0.7 (io), 24 P0.6/CNVSTR (io), 25 P0.5/RX (io), 26 P0.4/TX (io), 27 P0.3/XTO (io), 28 P0.2/XTI (io), TPAD DGND (power)

## C8051F410-GQ
designator U?
8051 Microcontroller, 50MIPS, 32KiB Flash, 256Byte RAM + 2KiB XRAM, 24.5MHz +/-2% and 40-20kHz Internal Oscillator, 4-16bit Timer, 24CH 200ksps 12bit ADC, 2CH 12bit IDAC, UART, I2C, SPI, CRC, RTC, PCA, 2 Comparator, LDO, Separable IO Supply, 24GPIO.; Manufacture: Silicon Laboratories; Compliant: RoHS; CompliantInformationSource: Silicon Laboratries; PackageDocument: 2007-02; TempertureRange: Industrial (-40 to +85Cel); ComponentLink1Description: Manufacture Link; ComponentLink1URL: http://www.silabs.com/; ComponentLink2Description: Datasheet; ComponentLink2URL: https://www.silabs.com/Support Documents/TechnicalDocs/C8051F41x.pdf; DatasheetDocument: Rev. 1.0, 2007-02; PackageReference: LQFP-32; Published: 2006-05-07; Publisher: A and A System Co., Ltd.; DigiKeyPartNumber: 336-1318-ND
footprint LQFP-32/e0.8 (LQFP-32; Body Width 10mm; Pitch 0.8mm)
pins: 1 VIO (power) "I/O Supply Voltage.", 2 ~{RST}/C2CK (in) "Reset Input, C2 Debug IF Clock Input.", 3 VRTC (power) "smaRTClock Backup Supply Voltage.", 4 RTCXTO (out) "smaRTClock Oscillator Crystal Input. See Section 20. "smaRTClock (Real Time Clock)" for a complete description.", 5 RTCXTI (in) "smaRTClock Oscillator Crystal Input. See Section 20. "smaRTClock (Real Time Clock)" for a complete description.", 6 DGND (power) "Digital Power Ground", 7 3.3DVDD (power) "Core Supply Voltage.", 8 REGIN (power) "On-Chip Voltage Regulator Input.", 9 P1.0/XTI (io) "Port 1.0. See Port I/O Section for a complete description. External Clock Input. This pin is the external oscillator return for a crystal or resonator. See Oscillator Section.", 10 P1.1/XTO (io) "Port 1.1. See Port I/O Section for a complete description. External Clock Output. This pin is the excitation driver for an external crystal or resonator, or an external clock input for CMOS, capacitor, or RC oscillator configurations. See Oscillator Sect", 11 P1.2/VREF (io) "Port 1.2. See Port I/O Section for a complete description. External VREF Input. See VREF Section.", 12 P1.3 (io) "Port 1.3. See Port I/O Section for a complete description.", 13 P1.4 (io) "Port 1.4. See Port I/O Section for a complete description.", 14 P1.5 (io) "Port 1.5. See Port I/O Section for a complete description.", 15 P1.6 (io) "Port 1.6. See Port I/O Section for a complete description.", 16 P1.7 (io) "Port 1.7. See Port I/O Section for a complete description.", 17 P0.0/IDAC0 (io) "Port 0.0. See Port I/O Section for a complete description, IDAC0 Output. See IDAC Section for complete description.", 18 P0.1/IDAC1 (io) "Port 0.1. See Port I/O Section for a complete description, IDAC1 Output. See IDAC Section for complete description.", 19 P0.2 (io) "Port 0.2.", 20 P0.3 (io) "Port 0.3.", 21 P0.4/TX (io) "Port 0.4. See Port I/O Section for a complete description. UART TX Pin. See Port I/O Section for a complete description.", 22 P0.5/RX (io) "Port 0.5. See Port I/O Section for a complete description. UART RX Pin. See Port I/O Section for a complete description.", 23 P0.6/CNVSTR (io) "Port 0.6. See Port I/O Section for a complete description. External Convert Start Input for ADC0, IDA0, and IDA1. See ADC0 or IDACs section for a complete description.", 24 P0.7 (io) "Port 0.7. See Port I/O Section for a complete description.", 25 P2.0 (io) "Port 2.0. See Port I/O Section for a complete description.", 26 P2.1 (io) "Port 2.1. See Port I/O Section for a complete description.", 27 P2.2 (io) "Port 2.2. See Port I/O Section for a complete description.", 28 P2.3 (io) "Port 2.3. See Port I/O Section for a complete description.", 29 P2.4 (io) "Port 2.4. See Port I/O Section for a complete description.", 30 P2.5 (io) "Port 2.5. See Port I/O Section for a complete description.", 31 P2.6 (io) "Port 2.6. See Port I/O Section for a complete description.", 32 P2.7/C2D (io) "Port 2.7. See Port I/O Section for a complete description, C2 Debug IF Data IO."

## C8051F411-GM
designator U?
8051 Microcontroller, 50MIPS, 32KiB Flash, 256Byte RAM + 2KiB XRAM, 24.5MHz +/-2% and 40-20kHz Internal Oscillator, 4-16bit Timer, 20CH 200ksps 12bit ADC, 2CH 12bit IDAC, UART, I2C, SPI, CRC, RTC, PCA, 2 Comparator, LDO, Separable IO Supply, 20GPIO.; Manufacture: Silicon Laboratories; Compliant: RoHS; CompliantInformationSource: Silicon Laboratries; PackageDocument: 2007-02; TempertureRange: Industrial (-40 to +85Cel); ComponentLink1Description: Manufacture Link; ComponentLink1URL: http://www.silabs.com/; ComponentLink2Description: Datasheet; ComponentLink2URL: https://www.silabs.com/Support Documents/TechnicalDocs/C8051F41x.pdf; DatasheetDocument: Rev. 1.0, 2007-02; PackageReference: QFN-28; Published: 2006-05-07; Publisher: A and A System Co., Ltd.; DigiKeyPartNumber: 336-1309-ND
footprint SILABS/QFN-28/W5/E0.5 (SiLabs Specific; QFN-28; Body 5.00x5.00x0.90mm; Pitch 0.5mm)
pins: 1 ~{RST}/C2CK (in) "Reset Input, C2 Debug IF Clock Input.", 2 VRTC (power) "smaRTClock Backup Supply Voltage.", 3 RTCXTO (out) "smaRTClock Oscillator Crystal Input. See Section 20. "smaRTClock (Real Time Clock)" for a complete description.", 4 RTCXTI (in) "smaRTClock Oscillator Crystal Input. See Section 20. "smaRTClock (Real Time Clock)" for a complete description.", 5 DGND (power) "Digital Power Ground", 6 3.3DVDD (power) "Core Supply Voltage.", 7 REGIN (power) "On-Chip Voltage Regulator Input.", 8 P1.0/XTI (io) "Port 1.0. See Port I/O Section for a complete description. External Clock Input. This pin is the external oscillator return for a crystal or resonator. See Oscillator Section.", 9 P1.1/XTO (io) "Port 1.1. See Port I/O Section for a complete description. External Clock Output. This pin is the excitation driver for an external crystal or resonator, or an external clock input for CMOS, capacitor, or RC oscillator configurations. See Oscillator Sect", 10 P1.2/VREF (io) "Port 1.2. See Port I/O Section for a complete description. External VREF Input. See VREF Section.", 11 P1.3 (io) "Port 1.3. See Port I/O Section for a complete description.", 12 P1.4 (io) "Port 1.4. See Port I/O Section for a complete description.", 13 P1.5 (io) "Port 1.5. See Port I/O Section for a complete description.", 14 P1.6 (io) "Port 1.6. See Port I/O Section for a complete description.", 15 P1.7 (io) "Port 1.7. See Port I/O Section for a complete description.", 16 P0.0/IDAC0 (io) "Port 0.0. See Port I/O Section for a complete description, IDAC0 Output. See IDAC Section for complete description.", 17 P0.1/IDAC1 (io) "Port 0.1. See Port I/O Section for a complete description, IDAC1 Output. See IDAC Section for complete description.", 18 P0.2 (io) "Port 0.2.", 19 P0.3 (io) "Port 0.3.", 20 P0.4/TX (io) "Port 0.4. See Port I/O Section for a complete description. UART TX Pin. See Port I/O Section for a complete description.", 21 P0.5/RX (io) "Port 0.5. See Port I/O Section for a complete description. UART RX Pin. See Port I/O Section for a complete description.", 22 P0.6/CNVSTR (io) "Port 0.6. See Port I/O Section for a complete description. External Convert Start Input for ADC0, IDA0, and IDA1. See ADC0 or IDACs section for a complete description.", 23 P0.7 (io) "Port 0.7. See Port I/O Section for a complete description.", 24 P2.0 (io) "Port 2.0. See Port I/O Section for a complete description.", 25 P2.1 (io) "Port 2.1. See Port I/O Section for a complete description.", 26 P2.2 (io) "Port 2.2. See Port I/O Section for a complete description.", 27 P2.7/C2D (io) "Port 2.7. See Port I/O Section for a complete description, C2 Debug IF Data IO.", 28 VIO (power) "I/O Supply Voltage.", TPAD DGND (power) "Digital Power Ground"

## C8051F412-GQ
designator U?
8051 Microcontroller, 50MIPS, 16KiB Flash, 256Byte RAM + 2KiB XRAM, 24.5MHz +/-2% and 40-20kHz Internal Oscillator, 4-16bit Timer, 24CH 200ksps 12bit ADC, 2CH 12bit IDAC, UART, I2C, SPI, CRC, RTC, PCA, 2 Comparator, LDO, Separable IO Supply, 24GPIO.; Manufacture: Silicon Laboratories; Compliant: RoHS; CompliantInformationSource: Silicon Laboratries; PackageDocument: 2007-02; TempertureRange: Industrial (-40 to +85Cel); ComponentLink1Description: Manufacture Link; ComponentLink1URL: http://www.silabs.com/; ComponentLink2Description: Datasheet; ComponentLink2URL: https://www.silabs.com/Support Documents/TechnicalDocs/C8051F41x.pdf; DatasheetDocument: Rev. 1.0, 2007-02; PackageReference: LQFP-32; Published: 2006-05-07; Publisher: A and A System Co., Ltd.; DigiKeyPartNumber: 336-1310-ND
footprint LQFP-32/e0.8 (LQFP-32; Body Width 10mm; Pitch 0.8mm)
pins: 1 VIO (power) "I/O Supply Voltage.", 2 ~{RST}/C2CK (in) "Reset Input, C2 Debug IF Clock Input.", 3 VRTC (power) "smaRTClock Backup Supply Voltage.", 4 RTCXTO (out) "smaRTClock Oscillator Crystal Input. See Section 20. "smaRTClock (Real Time Clock)" for a complete description.", 5 RTCXTI (in) "smaRTClock Oscillator Crystal Input. See Section 20. "smaRTClock (Real Time Clock)" for a complete description.", 6 DGND (power) "Digital Power Ground", 7 3.3DVDD (power) "Core Supply Voltage.", 8 REGIN (power) "On-Chip Voltage Regulator Input.", 9 P1.0/XTI (io) "Port 1.0. See Port I/O Section for a complete description. External Clock Input. This pin is the external oscillator return for a crystal or resonator. See Oscillator Section.", 10 P1.1/XTO (io) "Port 1.1. See Port I/O Section for a complete description. External Clock Output. This pin is the excitation driver for an external crystal or resonator, or an external clock input for CMOS, capacitor, or RC oscillator configurations. See Oscillator Sect", 11 P1.2/VREF (io) "Port 1.2. See Port I/O Section for a complete description. External VREF Input. See VREF Section.", 12 P1.3 (io) "Port 1.3. See Port I/O Section for a complete description.", 13 P1.4 (io) "Port 1.4. See Port I/O Section for a complete description.", 14 P1.5 (io) "Port 1.5. See Port I/O Section for a complete description.", 15 P1.6 (io) "Port 1.6. See Port I/O Section for a complete description.", 16 P1.7 (io) "Port 1.7. See Port I/O Section for a complete description.", 17 P0.0/IDAC0 (io) "Port 0.0. See Port I/O Section for a complete description, IDAC0 Output. See IDAC Section for complete description.", 18 P0.1/IDAC1 (io) "Port 0.1. See Port I/O Section for a complete description, IDAC1 Output. See IDAC Section for complete description.", 19 P0.2 (io) "Port 0.2.", 20 P0.3 (io) "Port 0.3.", 21 P0.4/TX (io) "Port 0.4. See Port I/O Section for a complete description. UART TX Pin. See Port I/O Section for a complete description.", 22 P0.5/RX (io) "Port 0.5. See Port I/O Section for a complete description. UART RX Pin. See Port I/O Section for a complete description.", 23 P0.6/CNVSTR (io) "Port 0.6. See Port I/O Section for a complete description. External Convert Start Input for ADC0, IDA0, and IDA1. See ADC0 or IDACs section for a complete description.", 24 P0.7 (io) "Port 0.7. See Port I/O Section for a complete description.", 25 P2.0 (io) "Port 2.0. See Port I/O Section for a complete description.", 26 P2.1 (io) "Port 2.1. See Port I/O Section for a complete description.", 27 P2.2 (io) "Port 2.2. See Port I/O Section for a complete description.", 28 P2.3 (io) "Port 2.3. See Port I/O Section for a complete description.", 29 P2.4 (io) "Port 2.4. See Port I/O Section for a complete description.", 30 P2.5 (io) "Port 2.5. See Port I/O Section for a complete description.", 31 P2.6 (io) "Port 2.6. See Port I/O Section for a complete description.", 32 P2.7/C2D (io) "Port 2.7. See Port I/O Section for a complete description, C2 Debug IF Data IO."

## C8051F413-GM
designator U?
8051 Microcontroller, 50MIPS, 32KiB Flash, 256Byte RAM + 2KiB XRAM, 24.5MHz +/-2% and 40-20kHz Internal Oscillator, 4-16bit Timer, 20CH 200ksps 12bit ADC, 2CH 12bit IDAC, UART, I2C, SPI, CRC, RTC, PCA, 2 Comparator, LDO, Separable IO Supply, 20GPIO.; Manufacture: Silicon Laboratories; Compliant: RoHS; CompliantInformationSource: Silicon Laboratries; PackageDocument: 2007-02; TempertureRange: Industrial (-40 to +85Cel); ComponentLink1Description: Manufacture Link; ComponentLink1URL: http://www.silabs.com/; ComponentLink2Description: Datasheet; ComponentLink2URL: https://www.silabs.com/Support Documents/TechnicalDocs/C8051F41x.pdf; DatasheetDocument: Rev. 1.0, 2007-02; PackageReference: QFN-28; Published: 2006-05-07; Publisher: A and A System Co., Ltd.; DigiKeyPartNumber: 336-1311-ND
footprint SILABS/QFN-28/W5/E0.5 (SiLabs Specific; QFN-28; Body 5.00x5.00x0.90mm; Pitch 0.5mm)
pins: 1 ~{RST}/C2CK (in) "Reset Input, C2 Debug IF Clock Input.", 2 VRTC (power) "smaRTClock Backup Supply Voltage.", 3 RTCXTO (out) "smaRTClock Oscillator Crystal Input. See Section 20. "smaRTClock (Real Time Clock)" for a complete description.", 4 RTCXTI (in) "smaRTClock Oscillator Crystal Input. See Section 20. "smaRTClock (Real Time Clock)" for a complete description.", 5 DGND (power) "Digital Power Ground", 6 3.3DVDD (power) "Core Supply Voltage.", 7 REGIN (power) "On-Chip Voltage Regulator Input.", 8 P1.0/XTI (io) "Port 1.0. See Port I/O Section for a complete description. External Clock Input. This pin is the external oscillator return for a crystal or resonator. See Oscillator Section.", 9 P1.1/XTO (io) "Port 1.1. See Port I/O Section for a complete description. External Clock Output. This pin is the excitation driver for an external crystal or resonator, or an external clock input for CMOS, capacitor, or RC oscillator configurations. See Oscillator Sect", 10 P1.2/VREF (io) "Port 1.2. See Port I/O Section for a complete description. External VREF Input. See VREF Section.", 11 P1.3 (io) "Port 1.3. See Port I/O Section for a complete description.", 12 P1.4 (io) "Port 1.4. See Port I/O Section for a complete description.", 13 P1.5 (io) "Port 1.5. See Port I/O Section for a complete description.", 14 P1.6 (io) "Port 1.6. See Port I/O Section for a complete description.", 15 P1.7 (io) "Port 1.7. See Port I/O Section for a complete description.", 16 P0.0/IDAC0 (io) "Port 0.0. See Port I/O Section for a complete description, IDAC0 Output. See IDAC Section for complete description.", 17 P0.1/IDAC1 (io) "Port 0.1. See Port I/O Section for a complete description, IDAC1 Output. See IDAC Section for complete description.", 18 P0.2 (io) "Port 0.2.", 19 P0.3 (io) "Port 0.3.", 20 P0.4/TX (io) "Port 0.4. See Port I/O Section for a complete description. UART TX Pin. See Port I/O Section for a complete description.", 21 P0.5/RX (io) "Port 0.5. See Port I/O Section for a complete description. UART RX Pin. See Port I/O Section for a complete description.", 22 P0.6/CNVSTR (io) "Port 0.6. See Port I/O Section for a complete description. External Convert Start Input for ADC0, IDA0, and IDA1. See ADC0 or IDACs section for a complete description.", 23 P0.7 (io) "Port 0.7. See Port I/O Section for a complete description.", 24 P2.0 (io) "Port 2.0. See Port I/O Section for a complete description.", 25 P2.1 (io) "Port 2.1. See Port I/O Section for a complete description.", 26 P2.2 (io) "Port 2.2. See Port I/O Section for a complete description.", 27 P2.7/C2D (io) "Port 2.7. See Port I/O Section for a complete description, C2 Debug IF Data IO.", 28 VIO (power) "I/O Supply Voltage.", TPAD DGND (power) "Digital Power Ground"